# Altium footprint library PCB - LEADED - MSOP - AD MSOP-12 4x3MM MSE.PcbLib: 1 footprints
Each footprint in its own frame and in the unit in brackets; x right, y up, seen from the top. Pads: shape width x height; smd on the part's side, far side on the other; paste and mask are expansions set on the pad; w line width, h text height; cw(c..) or ccw(c..) is an arc to the next point about the centre after c.
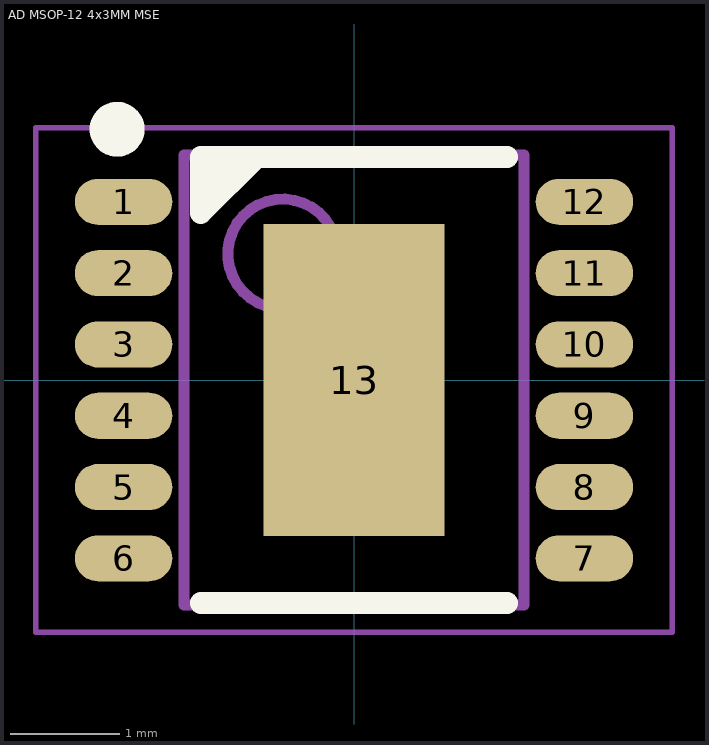
[diagram p0: the footprint, top view; thin cyan lines are the x and y axes]

## AD MSOP-12 4x3MM MSE [mm] "MSE Package  12-Lead Plastic MSOP, Exposed Die Pad"
height 1.1
pads (13):
  oval 0.889x0.42 smd: 1(-2.1,1.625) 2(-2.1,0.975) 3(-2.1,0.325) 4(-2.1,-0.325) 5(-2.1,-0.975) 6(-2.1,-1.625) 7(2.1,-1.625) 8(2.1,-0.975) 9(2.1,-0.325) 10(2.1,0.325) 11(2.1,0.975) 12(2.1,1.625)
  rect 1.651x2.845 smd: 13(0,0)
Top Overlay:
  circle w0.25: c-2.159,2.286 r0.125
  region: -1.397,2.032 -1.397,1.524 -0.889,2.032
  lines w0.2: -1.397,-2.032 1.397,-2.032 ; -0.889,2.032 -1.397,1.524 -1.397,2.032 1.397,2.032
Top Assembly:
  circle w0.1: c-0.65,1.15 r0.5
  lines w0.1: -1.55,-2.05 1.55,-2.05 1.55,2.05 -1.55,2.05 -1.55,-2.05
Top Courtyard (Mech15):
  lines w0.05: -2.9,-2.3 2.9,-2.3 2.9,2.3 -2.9,2.3 -2.9,-2.3
  lines w0.1: -0.5,0 0.5,0 ; 0,-0.5 0,0.5
3D body "AD MSOP-12 4x3MM MSE.step": height 1.1, standoff 0, extent -2.45,-2.05 2.45,2.05